# EAGLE library part ADG1423 (library HyTechDevices)
ADG1423 Form-A/Form-C Analog Switch Datasheet <https://www.mouser.com/datasheet/2/609/ADG1421_1422_1423-1502752.pdf>
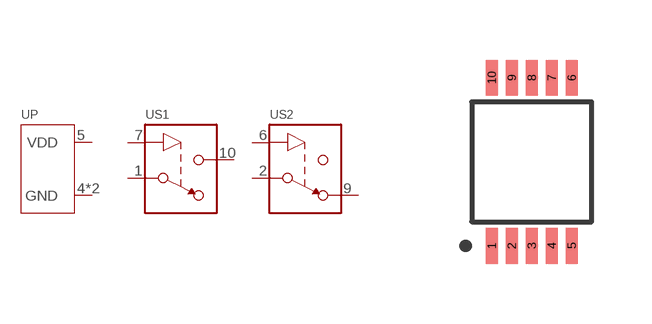
[diagram p3: symbol with the pads of MSOP-10; footprint MSOP-10]

Designator prefix U; gates P=PWR_GND S2=SWITCH_SPST_NC S1=SWITCH_SPST_NO

## ADG1423 (DKPN: ADG1423BRMZ-REEL7CT-ND; MANUFACTURER: Analog Devices Inc.; MOPN: 584-ADG1423BRMZ; MPN: ADG1423BRMZ)  [MSOP-10]
1  S1:S
2  S2:S
4  P:GND  pwr
5  P:VDD  pwr
6  S2:IN  in
7  S1:IN  in
8  P:GND  pwr
9  S2:D
10  S1:D

## Footprint MSOP-10 (pad centres in mm)
MSOP-10 Datasheet <https://www.analog.com/media/en/package-pcb-resources/package/pkg_pdf/ltc-legacy-msop/05081661_F_MS.pdf>
smd 0.305 x 0.889: 1 -1,-2.106; 2 -0.5,-2.106; 3 0,-2.106; 4 0.5,-2.106; 5 1,-2.106; 6 1,2.106; 7 0.5,2.106; 8 0,2.106; 9 -0.5,2.106; 10 -1,2.106